# Altium footprint library WLPMA0A040M4R7LC.PcbLib: 1 footprints
Each footprint in its own frame and in the unit in brackets; x right, y up, seen from the top. Pads: shape width x height; smd on the part's side, far side on the other; paste and mask are expansions set on the pad; w line width, h text height; cw(c..) or ccw(c..) is an arc to the next point about the centre after c.
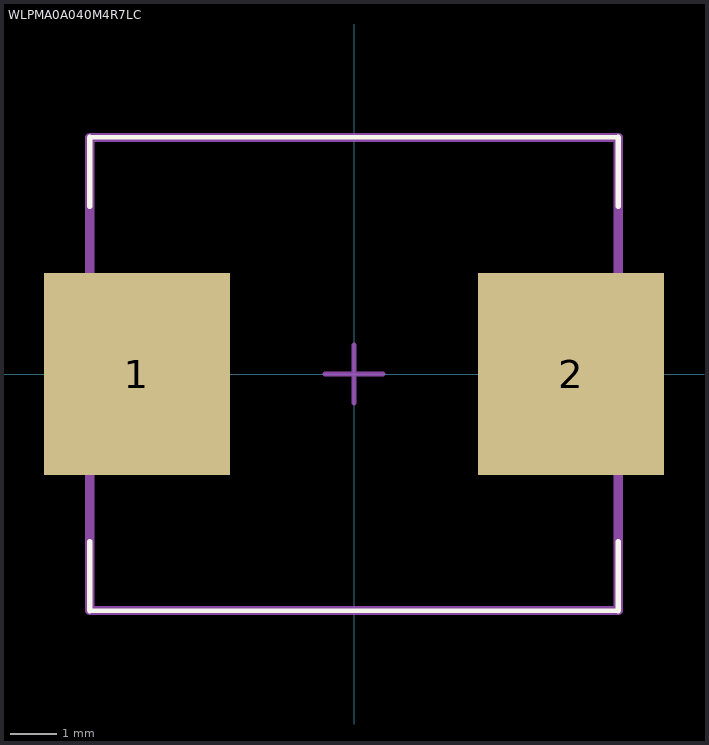
[diagram p0: the footprint, top view; thin cyan lines are the x and y axes]

## WLPMA0A040M4R7LC [mm] "A footprint for WLPMA0A040M4R7LC"
height 4
pads (2):
  rect 4.05x4.4 smd mask+0: 1(-4.725,0) 2(4.725,0)
Top Overlay:
  lines w0.1: -5.75,-5.15 5.75,-5.15 ; -5.75,5.15 5.75,5.15
  lines w0.127: -5.75,-5.15 -5.75,-3.65 ; -5.75,3.65 -5.75,5.15 ; 5.75,-5.15 5.75,-3.65 ; 5.75,3.65 5.75,5.15
Mechanical 13:
  lines w0.2: -5.75,-5.15 5.75,-5.15 5.75,5.15 -5.75,5.15 -5.75,-5.15
Mechanical 15:
  lines w0.1: -0.635,0 0,0 ; 0,-0.635 0,0 ; 0,0.635 0,0 ; 0.635,0 0,0
3D body "WLPMA0A040M4R7LC_3dmodel.stp": height 4, standoff 0, extent -5.575,-5 5.575,5